# EAGLE library part K-HEADER-MALE-1X15- (library elpp-tht-v1.4)
PIN HEADER
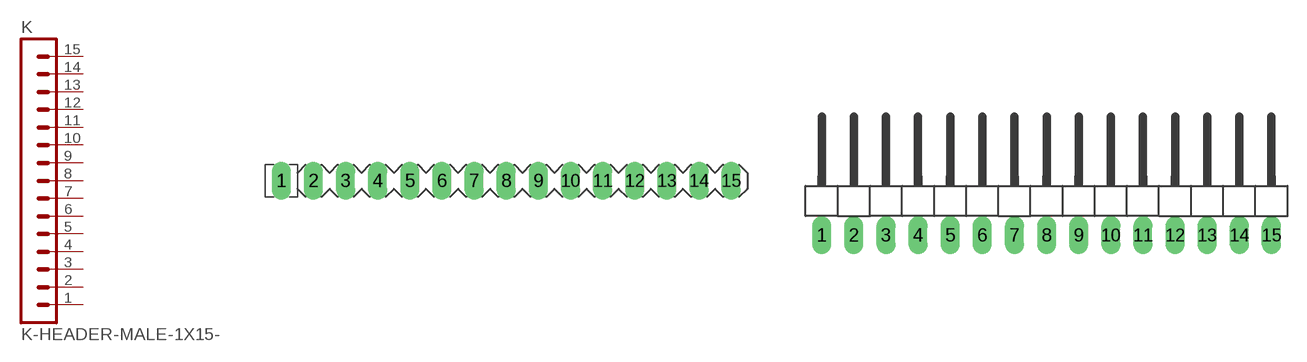
[diagram p16: symbol with the pads of ELPP-SIL-M-15-WAY; footprints ELPP-SIL-M-15-WAY, ELPP-SIL-M-15-WAY-90DEG]

Designator prefix K

## K-HEADER-MALE-1X15-V (FARNELL: 1098454; RS: 6812058)  [ELPP-SIL-M-15-WAY]
1  1  pas
2  2  pas
3  3  pas
4  4  pas
5  5  pas
6  6  pas
7  7  pas
8  8  pas
9  9  pas
10  10  pas
11  11  pas
12  12  pas
13  13  pas
14  14  pas
15  15  pas

## K-HEADER-MALE-1X15-H (FARNELL: 1098476; RS: 6812060)  [ELPP-SIL-M-15-WAY-90DEG]
Pads as for ELPP-SIL-M-15-WAY

## Footprint ELPP-SIL-M-15-WAY (pad centres in mm)
PIN HEADER, 15-way
drill 1 long: 1 -5.08,0; 2 -2.54,0; 3 0,0; 4 2.54,0; 5 5.08,0; 6 7.62,0; 7 10.16,0; 8 12.7,0; 9 15.24,0; 10 17.78,0; 11 20.32,0; 12 22.86,0; 13 25.4,0; 14 27.94,0; 15 30.48,0

## Footprint ELPP-SIL-M-15-WAY-90DEG (pad centres in mm)
PIN HEADER, 1 row, 90 degrees
drill 1 long: 1 -17.78,0; 2 -15.24,0; 3 -12.7,0; 4 -10.16,0; 5 -7.62,0; 6 -5.08,0; 7 -2.54,0; 8 0,0; 9 2.54,0; 10 5.08,0; 11 7.62,0; 12 10.16,0; 13 12.7,0; 14 15.24,0; 15 17.78,0